# Altium footprint library 接插件.PcbLib: 194 footprints (part 1 of 13)
Each footprint in its own frame and in the unit in brackets; x right, y up, seen from the top. Pads: shape width x height; smd on the part's side, far side on the other; paste and mask are expansions set on the pad; w line width, h text height; cw(c..) or ccw(c..) is an arc to the next point about the centre after c.
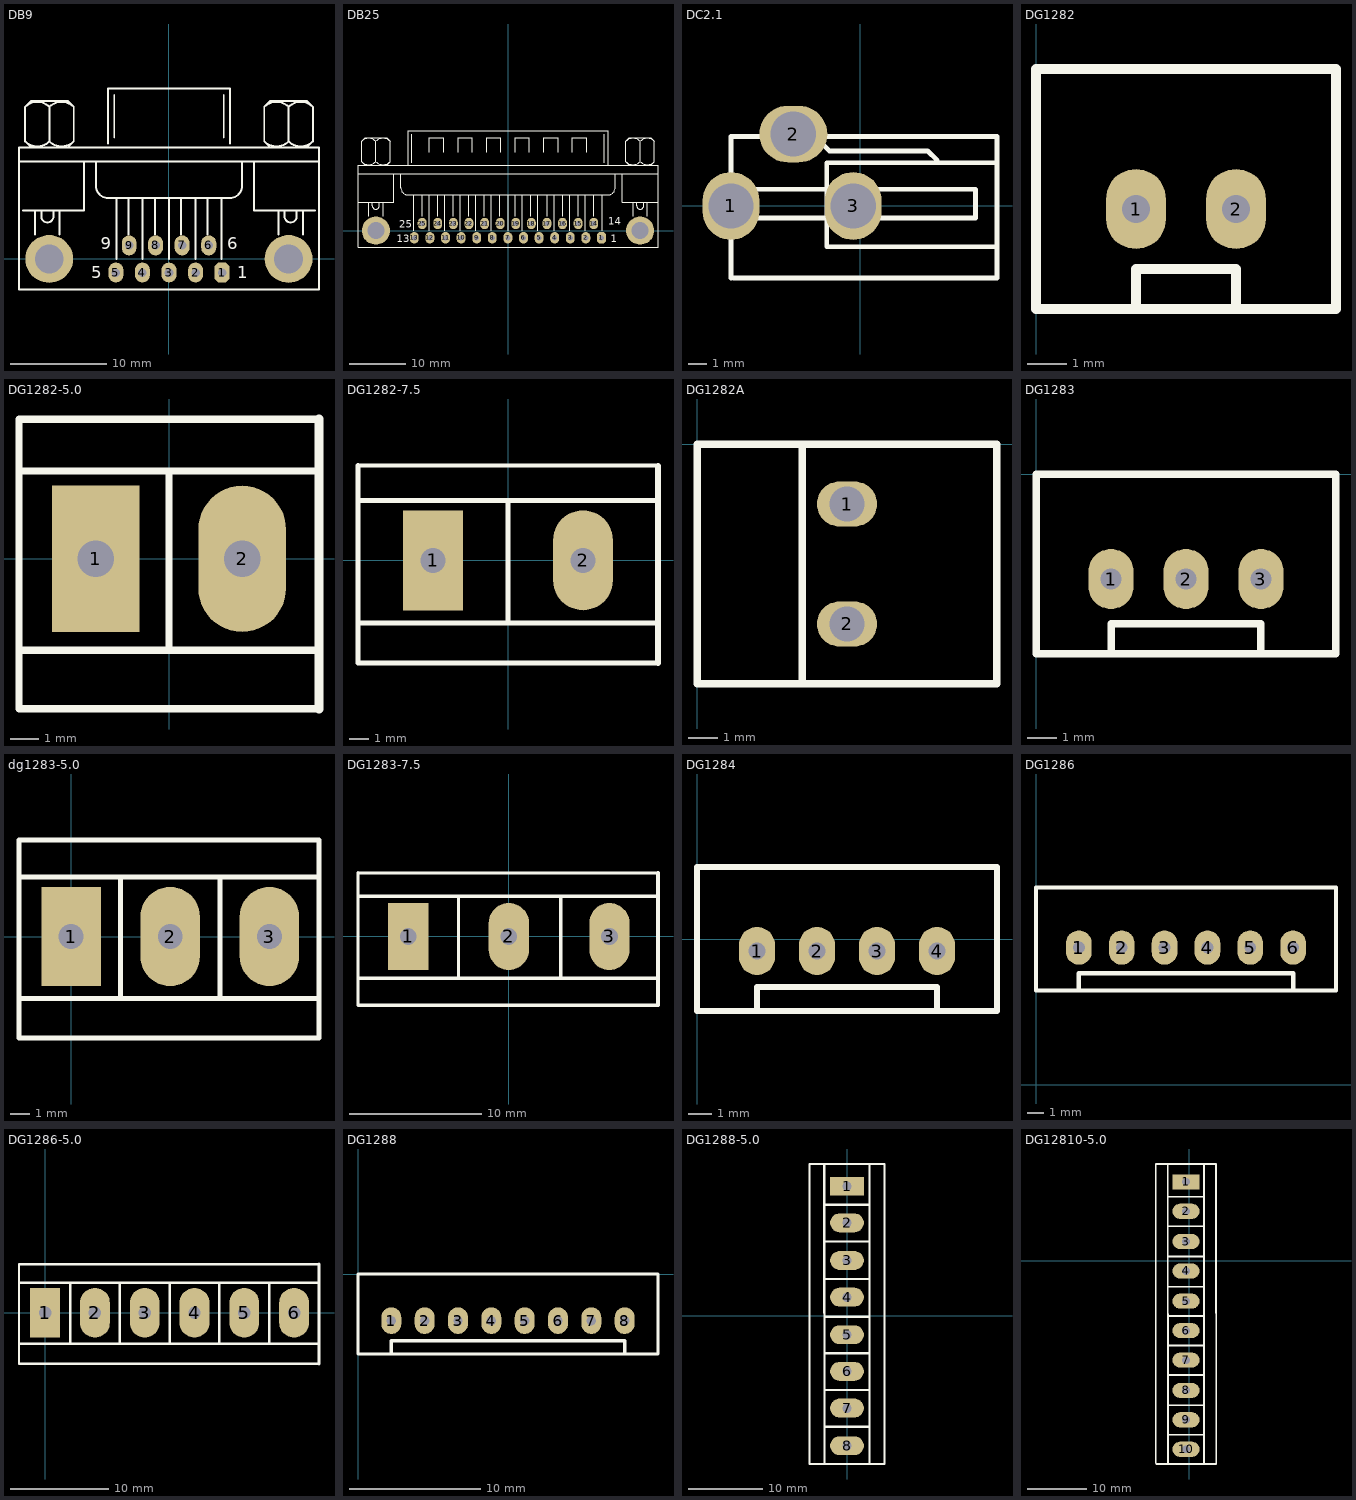
[diagram p0: the footprints below, top view; thin cyan lines are the x and y axes]

## DB9 [mil]
pads (11):
  oct 62x82 hole 35: 1(218.75,-55.83)
  oval 62x82 hole 35: 2(109.58,-55.83) 3(0.42,-55.83) 4(-108.75,-55.83) 5(-217.92,-55.83) 6(163.75,55.83) 7(54.58,55.83) 8(-54.58,55.83)
  oval 60x82 hole 35: 9(-163.75,55.83)
  round 196.67 hole 118.33: ""(-492.08,0) ""(492.08,0)
Top Overlay:
  lines w8: -616.25,400 617.08,400 ; -599.58,200 -349.58,200 -349.58,400 ; -591.34,483.25 ccw(c-541.25,533.33) -491.16,483.25 ; -591.34,625.09 cw(c-541.25,575) -491.16,625.09 ; -566.25,458.33 -591.25,483.33 -591.25,625 -566.25,650 -416.25,650 -391.25,625 -391.25,483.33 -416.25,458.33 ; -549.58,100 -549.58,200 ; -524.58,200 -524.58,175 ccw(c-499.58,175) -474.58,175 -474.58,200 ; -491.34,483.25 ccw(c-441.25,533.33) -391.16,483.25 ; -491.34,625.09 cw(c-441.25,575) -391.16,625.09 ; -491.25,483.33 -491.25,625 ; -449.58,100 -449.58,200 ; -299.58,400 -299.58,300 ccw(c-249.58,300) -249.58,250 250.42,250 ccw(c250.42,300) 300.42,300 300.42,400 ; -249.58,475 -249.58,700 250.42,700 250.42,475 ; -224.58,500 -224.58,675 ; -216.25,0 -216.25,250 ; -166.25,100 -166.25,250 ; -107.92,0 -107.92,250 ; -57.92,100 -57.92,250 ; 0.42,0 0.42,250 ; 50.42,100 50.42,250 ; 108.75,0 108.75,250 ; 158.75,100 158.75,250 ; 217.08,0 217.08,250 ; 225.42,500 225.42,675 ; 350.42,400 350.42,200 600.42,200 ; 392,483.25 ccw(c442.08,533.33) 492.17,483.25 ; 392,625.09 cw(c442.08,575) 492.17,625.09 ; 417.08,458.33 392.08,483.33 392.08,625 417.08,650 567.08,650 592.08,625 592.08,483.33 567.08,458.33 ; 450.42,100 450.42,200 ; 475.42,200 475.42,175 ccw(c500.42,175) 525.42,175 525.42,200 ; 492,483.25 ccw(c542.08,533.33) 592.17,483.25 ; 492,625.09 cw(c542.08,575) 592.17,625.09 ; 492.08,483.33 492.08,625 ; 550.42,100 550.42,200 ; -616.25,-125 617.08,-125 617.08,458.33 -616.25,458.33 -616.25,-125
  text "6" at 240.42,40 h50
  text "1" at 280.42,-80 h50
  text "5" at -319.58,-80 h50
  text "9" at -279.58,40 h50

## DB25 [mil]
pads (27):
  oct 62x80 hole 35: 1(654.17,-50)
  oval 62x80 hole 35: 2(545,-50) 3(435.83,-50) 4(326.67,-50) 5(217.5,-50) 6(108.33,-50) 7(-0.83,-50) 8(-110,-50) 9(-219.17,-50) 10(-328.33,-50) 11(-437.5,-50) 12(-546.67,-50) 13(-655.83,-50) 14(600,50) 15(490.83,50) 16(381.67,50) 17(272.5,50) 18(163.33,50) 19(54.17,50) 20(-55,50) 21(-164.17,50) 22(-273.33,50) 23(-382.5,50) 24(-491.67,50) 25(-600.83,50)
  round 196.67 hole 118.33: ""(-925,0) ""(925,0)
Top Overlay:
  lines w8: -1050,200 -800,200 -800,400 ; -1050,400 1050,400 ; -1025.09,483.25 ccw(c-975,533.33) -924.91,483.25 ; -1025.09,625.09 cw(c-975,575) -924.91,625.09 ; -1000,458.33 -1025,483.33 -1025,625 -1000,650 -850,650 -825,625 -825,483.33 -850,458.33 ; -975,100 -975,200 ; -950,200 -950,175 ccw(c-925,175) -900,175 -900,200 ; -925.09,483.25 ccw(c-875,533.33) -824.91,483.25 ; -925.09,625.09 cw(c-875,575) -824.91,625.09 ; -925,483.33 -925,625 ; -875,100 -875,200 ; -750,400 -750,300 ccw(c-700,300) -700,250 700,250 ccw(c700,300) 750,300 750,400 ; -700,458.33 -700,700 700,700 700,458.33 ; -675,475 -675,675 ; -658.33,0 -658.33,250 ; -600,100 -600,250 ; -550,0 -550,250 ; -550,550 -550,650 -450,650 -450,550 ; -491.67,100 -491.67,250 ; -441.67,0 -441.67,250 ; -383.33,100 -383.33,250 ; -350,550 -350,650 -250,650 -250,550 ; -333.33,0 -333.33,250 ; -275,100 -275,250 ; -225,0 -225,250 ; -166.67,100 -166.67,250 ; -150,550 -150,650 -50,650 -50,550 ; -116.67,0 -116.67,250 ; -58.33,100 -58.33,250 ; 0,0 0,250 ; 50,100 50,250 ; 50,550 50,650 150,650 150,550 ; 100,0 100,250 ; 158.33,100 158.33,250 ; 208.33,0 208.33,250 ; 250,550 250,650 350,650 350,550 ; 275,100 275,250 ; 325,0 325,250 ; 383.33,100 383.33,250 ; 433.33,0 433.33,250 ; 450,550 450,650 550,650 550,550 ; 491.67,100 491.67,250 ; 541.67,0 541.67,250 ; 600,100 600,250 ; 658.33,0 658.33,250 ; 675,475 675,675 ; 800,400 800,200 1050,200 ; 824.91,483.25 ccw(c875,533.33) 925.09,483.25 ; 824.91,625.09 cw(c875,575) 925.09,625.09 ; 850,458.33 825,483.33 825,625 850,650 1000,650 1025,625 1025,483.33 1000,458.33 ; 875,100 875,200 ; 900,200 900,175 ccw(c925,175) 950,175 950,200 ; 924.91,483.25 ccw(c975,533.33) 1025.09,483.25 ; 924.91,625.09 cw(c975,575) 1025.09,625.09 ; 925,483.33 925,625 ; 975,100 975,200 ; -1050,-116.67 -1050,458.33 1050,458.33 1050,-116.67 -1050,-116.67
  text "14" at 700,40 h50
  text "1" at 720,-80 h50
  text "13" at -780,-80 h50
  text "25" at -760,20 h50

## DC2.1 [mm]
pads (3):
  oval 3x3.6 hole 2.4: 1(-6.858,0) 3(-0.381,0)
  oval 3.6x3 hole 2.4: 2(-3.556,3.81)
Top Overlay:
  lines w0.254: -6.858,-3.81 -6.858,3.683 7.239,3.683 7.239,-3.81 -6.731,-3.81 ; -6.858,-0.508 -6.731,-0.635 6.096,-0.635 6.096,0.889 -6.858,0.889 ; -2.286,3.556 -1.651,2.921 3.556,2.921 4.064,2.413 ; 7.239,-2.159 -1.778,-2.159 -1.778,2.286 7.239,2.286

## DG1282 [mil]
pads (2):
  oval 60x80 hole 27.56: 1(100,360) 2(200,360)
Top Overlay:
  lines w10: 100,260 100,300 200,300 200,280 200,260 ; 0,260 0,380 0,500 300,500 300,260 0,260

## DG1282-5.0 [mil]
pads (2):
  rect 120x200 hole 50: 1(-100,0)
  oval 120x200 hole 50: 2(100,0)
Top Overlay:
  lines w10: -205,-203 -205,-205 205,-205 ; -205,-200 -205,191 205,191 ; -205,-125 205,-125 ; -205,120 205,120 ; 0,-124 0,120
  lines w12: 205,-205 205,191

## DG1282-7.5 [mil]
pads (2):
  rect 120x200 hole 50: 1(-150,0)
  oval 120x200 hole 50: 2(150,0)
Top Overlay:
  lines w10: -300,-125 300,-125 ; -300,120 300,120 ; -300,186 -300,-205 300,-205 ; -300,190 300,189 ; 0,-124 0,120
  lines w12: 300,-205 300,189

## DG1282A [mil]
pads (2):
  oval 80x60 hole 47.24: 1(200,-80) 2(200,-240)
Top Overlay:
  lines w10: 140,-320 140,0 ; 0,-320 240,-320 260,-320 280,-320 360,-320 400,-320 400,0 360,0 280,0 260,0 240,0 0,0 0,-20 0,-320

## DG1283 [mil]
pads (3):
  oval 60x80 hole 27.56: 1(100,-140) 2(200,-140) 3(300,-140)
Top Overlay:
  lines w10: 100,-240 100,-200 300,-200 300,-240 ; 0,-240 400,-240 400,0 0,0 0,-120 0,-240

## dg1283-5.0 [mil]
pads (3):
  rect 120x200 hole 50: 1(0,0)
  oval 120x200 hole 50: 2(200,0) 3(400,0)
Top Overlay:
  lines w10: -105,-203 -105,-205 500,-205 500,195 -105,195 ; -105,-200 -105,191 ; -105,-125 500,-125 ; -105,120 500,120 ; 100,-124 100,120 ; 300,-125 300,120

## DG1283-7.5 [mil]
pads (3):
  rect 120x200 hole 50: 1(-300,0)
  oval 120x200 hole 50: 2(0,0) 3(300,0)
Top Overlay:
  lines w10: -450,-125 445,-125 ; -450,120 445,120 ; -450,186 -450,-205 445,-205 ; -450,190 445,189 ; -150,-124 -150,120 ; 155,-125 155,120
  lines w12: 445,-205 445,189

## DG1284 [mil]
pads (4):
  oval 60x80 hole 27.56: 1(100,-20) 2(200,-20) 3(300,-20) 4(400,-20)
Top Overlay:
  lines w10: 100,-120 100,-80 400,-80 400,-120 ; 0,-120 480,-120 500,-120 500,120 0,120 0,0 0,-120

## DG1286 [mil]
pads (6):
  oval 60x80 hole 27.56: 1(100,320) 2(200,320) 3(300,320) 4(400,320) 5(500,320) 6(600,320)
Top Overlay:
  lines w10: 100,220 100,260 400,260 600,260 600,220 ; 0,220 480,220 500,220 700,220 700,460 500,460 0,460 0,340 0,220

## DG1286-5.0 [mil]
pads (6):
  rect 120x200 hole 50: 1(0,0)
  oval 120x200 hole 50: 2(200,0) 3(400,0) 4(600,0) 5(800,0) 6(1000,0)
Top Overlay:
  lines w10: -105,-203 -105,-205 1100,-205 ; -105,-200 -105,191 ; -105,-125 1100,-125 ; -105,120 1100,120 ; -105,195 1095,195 ; 100,-124 100,120 ; 300,-125 300,120 ; 500,-125 500,120 ; 700,-125 700,120 ; 900,-125 900,120
  lines w12: 1100,-205 1100,195

## DG1288 [mil]
pads (8):
  oval 60x80 hole 27.56: 1(100,-140) 2(200,-140) 3(300,-140) 4(400,-140) 5(500,-140) 6(600,-140) 7(700,-140) 8(800,-140)
Top Overlay:
  lines w10: 100,-240 100,-200 400,-200 600,-200 800,-200 800,-240 ; 0,-240 480,-240 500,-240 700,-240 900,-240 900,0 700,0 500,0 0,0 0,-120 0,-240

## DG1288-5.0 [mil]
pads (8):
  rect 180x100 hole 50: 1(0,690)
  oval 180x100 hole 50: 2(0,495) 3(0,295) 4(0,100) 5(0,-100) 6(0,-295) 7(0,-490) 8(0,-690)
Top Overlay:
  lines w12: -121,808 -120,-782.5 ; -117,591 118,591 ; -112,-589 118,-589 ; -112,-394 118,-394 ; -112,-199 118,-199 ; -112,-4 118,-4 ; -112,196 118,196 ; -112,396 118,396 ; 120,-787.5 120,808 ; 199,-787.5 -200,-787.5 -200,808 199,808 200,-787.5

## DG12810-5.0 [mil]
pads (10):
  rect 180x100 hole 50: 1(-20,522.5)
  oval 180x100 hole 50: 2(-20,327.5) 3(-20,127.5) 4(-20,-67.5) 5(-20,-267.5) 6(-20,-462.5) 7(-20,-657.5) 8(-20,-857.5) 9(-20,-1052.5) 10(-20,-1247.5)
Top Overlay:
  lines w12: -220,-1340 -220,640.5 179,640.5 180,-1340 ; -215,-1345 179,-1345 ; -141,640.5 -140,-1340 ; -137,423.5 98,423.5 ; -132,-1151.5 98,-1151.5 ; -132,-956.5 98,-956.5 ; -132,-756.5 98,-756.5 ; -132,-561.5 98,-561.5 ; -132,-366.5 98,-366.5 ; -132,-171.5 98,-171.5 ; -132,28.5 98,28.5 ; -132,228.5 98,228.5 ; 100,-1340 100,640.5